# Altium footprint library Battery Holders.PcbLib: 3 footprints
Each footprint in its own frame and in the unit in brackets; x right, y up, seen from the top. Pads: shape width x height; smd on the part's side, far side on the other; paste and mask are expansions set on the pad; w line width, h text height; cw(c..) or ccw(c..) is an arc to the next point about the centre after c.
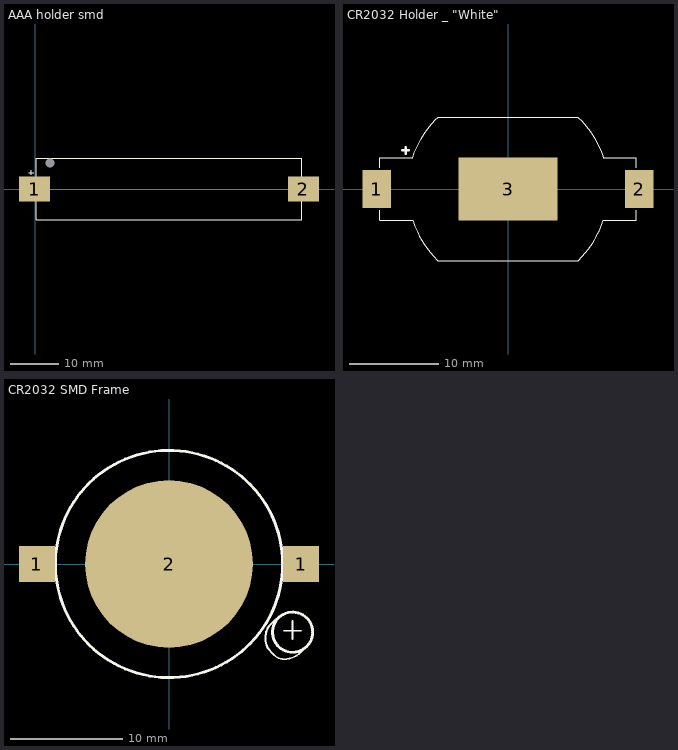
[diagram p0: the footprints below, top view; thin cyan lines are the x and y axes]

## AAA holder smd [mm]
pads (3):
  rect 6.35x5.08 smd: 1(-0.1,0) 2(55.03,0)
  rect 0x0 hole 1.89: ""(3.07,5.31)
Top Overlay:
  lines w0.254: -1.28,3.37 -0.22,3.37 ; -0.76,2.87 -0.76,3.87 ; 0.3,-6.35 0.3,0 0.3,6.35 54.63,6.35 54.63,0 54.63,-6.35 0.3,-6.35
Mechanical 1:
  lines w0.254: -3.28,0 58.21,0
3D body "AAA_holder.STEP": height 11.25, standoff 0, extent -3.9,-6.21 58.7,6.29

## CR2032 Holder _ "White" [mm]
pads (3):
  rect 3.2x4.2 smd: 1(-14.65,0) 2(14.65,0)
  rect 11x7 smd: 3(0,0)
Top Overlay:
  lines w0.127: -14.3,-2.4 -14.3,-3.5 -10.65,-3.5 -10.4,-4.15 -10.1,-4.85 -9.9,-5.25 -9.62,-5.739 -9.224,-6.357 -8.7,-7.05 -8.345,-7.473 -7.854,-7.991 ; -14.3,2.4 -14.3,3.5 -10.65,3.5 -10.458,4.034 -10.042,4.966 -9.686,5.625 -9.347,6.181 -8.951,6.73 -8.527,7.277 -8.064,7.777 -7.841,7.983 ; -7.85,-8 7.85,-8 ; -7.85,8 7.85,8 ; 7.854,-7.993 8.304,-7.518 8.645,-7.122 9.006,-6.661 9.242,-6.325 9.441,-6.034 9.67,-5.657 9.86,-5.319 10.047,-4.954 10.174,-4.691 10.469,-3.994 10.65,-3.5 14.3,-3.5 14.3,-2.4 ; 7.868,7.973 8.214,7.615 8.736,7.012 9.174,6.425 9.674,5.653 10.047,4.962 10.29,4.442 10.5,3.9 10.65,3.5 14.3,3.5 14.3,2.4
  lines w0.254: -11.811,4.318 -11.049,4.318 ; -11.43,3.937 -11.43,4.699
3D body "cr2032 white.STEP": height 5.6, standoff 0, extent -16.1,-8 16.1,8

## CR2032 SMD Frame [mm]
pads (3):
  rect 3.2x3.2 smd: 1(-11.811,0) 1(11.811,0)
  round 15 smd: 2(0,0)
Top Overlay:
  circle w0.254: c11.049,-6.096 r1.796
  circle w0.254: c0,0 r10.16
  lines w0.152: 9.144,-7.88 cw(c10.37,-6.654) 8.636,-6.654 cw(c10.596,-6.654) 9.21,-5.268 9.525,-4.953 9.017,-5.461 ccw(c9.937,-6.381) 8.636,-6.381 8.636,-6.918 ccw(c9.732,-6.918) 8.957,-7.693 9.409,-8.145 ccw(c10.287,-7.267) 10.287,-8.509 ccw(c10.287,-6.363) 11.805,-7.88 12.319,-7.366 ; 10.287,-5.969 11.811,-5.969 ; 11.049,-6.731 11.049,-5.08